# Altium footprint library RFD900.PcbLib: 1 footprints
Each footprint in its own frame and in the unit in brackets; x right, y up, seen from the top. Pads: shape width x height; smd on the part's side, far side on the other; paste and mask are expansions set on the pad; w line width, h text height; cw(c..) or ccw(c..) is an arc to the next point about the centre after c.
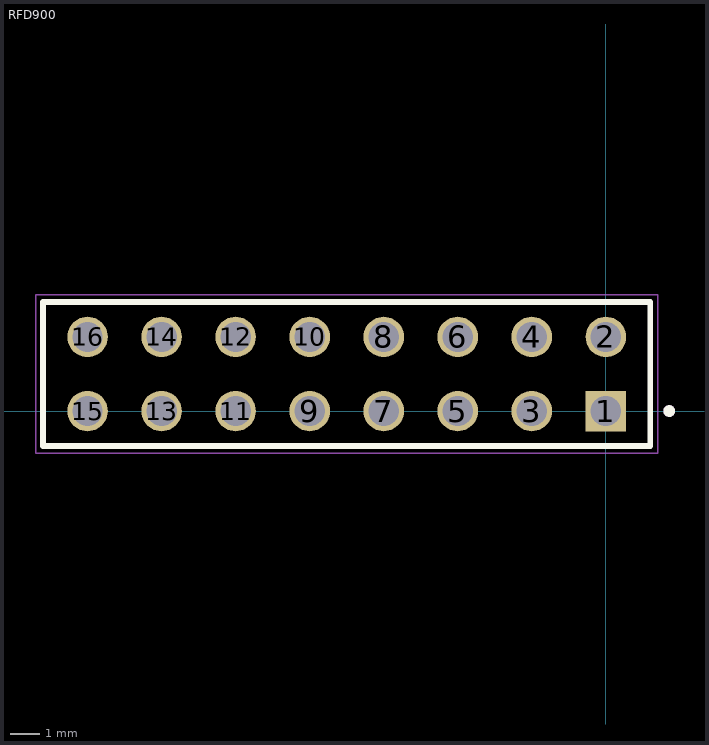
[diagram p0: the footprint, top view; thin cyan lines are the x and y axes]

## RFD900 [mm]
pads (16):
  rect 1.39x1.39 hole 1.04: 1(0,0)
  round 1.39 hole 1.04: 2(0,2.54) 3(-2.54,0) 4(-2.54,2.54) 5(-5.08,0) 6(-5.08,2.54) 7(-7.62,0) 8(-7.62,2.54) 9(-10.16,0) 10(-10.16,2.54) 11(-12.7,0) 12(-12.7,2.54) 13(-15.24,0) 14(-15.24,2.54) 15(-17.78,0) 16(-17.78,2.54)
Top Overlay:
  circle w0.2: c2.175,0 r0.1
  lines w0.2: -19.305,-1.205 1.525,-1.205 1.525,3.745 -19.305,3.745 -19.305,-1.205
Mechanical 13:
  circle w0.2: c2.175,0 r0.1
  lines w0.1: -19.305,-1.205 1.525,-1.205 1.525,3.745 -19.305,3.745 -19.305,-1.205
Mechanical 15:
  lines w0.05: -19.555,-1.455 1.775,-1.455 1.775,3.995 -19.555,3.995 -19.555,-1.455
3D body "RFD900.stp": height 16.76, standoff -3.29, extent -24.163,-1.438 6.637,50.582